# EAGLE library part POLOLU_HIGH-POWER_STEPPER_MOTOR_DRIVER_36V4 (library high power stepper driver 36V4)
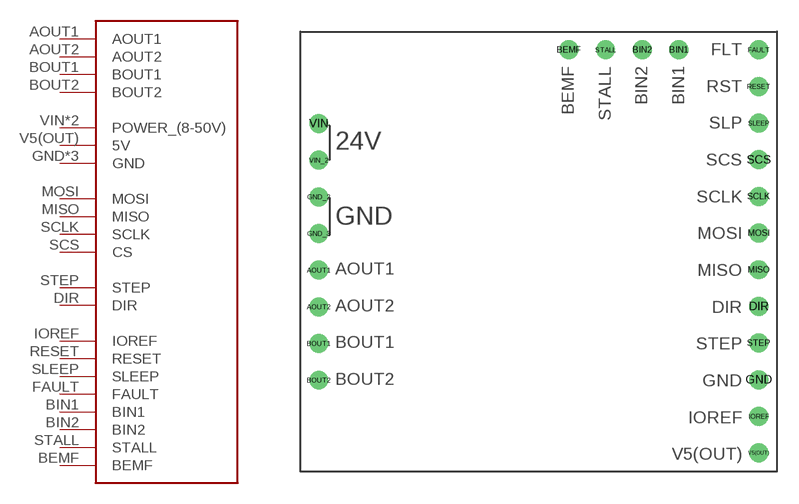
[diagram p0: symbol with the pads of BREAKOUT_BOARD; footprint BREAKOUT_BOARD]

Designator prefix -

## POLOLU_HIGH-POWER_STEPPER_MOTOR_DRIVER_36V4  [BREAKOUT_BOARD]
AOUT1  AOUT1
AOUT2  AOUT2
BEMF  BEMF
BIN1  BIN1
BIN2  BIN2
BOUT1  BOUT1
BOUT2  BOUT2
DIR  DIR
FAULT  FAULT
GND  GND
GND_2  GND
GND_3  GND
IOREF  IOREF
MISO  MISO
MOSI  MOSI
RESET  RESET
SCLK  SCLK
SCS  CS
SLEEP  SLEEP
STALL  STALL
STEP  STEP
V5(OUT)  5V
VIN  POWER_(8-50V)
VIN_2  POWER_(8-50V)

## Footprint BREAKOUT_BOARD (pad centres in mm)
drill 0.8: AOUT1 1.27,13.97; AOUT2 1.27,11.43; BEMF 18.6,29.24; BIN1 26.22,29.24; BIN2 23.68,29.24; BOUT1 1.27,8.89; BOUT2 1.27,6.35; DIR 31.75,11.46; FAULT 31.75,29.24; GND 31.75,6.38; GND_2 1.27,19.05; GND_3 1.27,16.51; IOREF 31.75,3.84; MISO 31.75,14; MOSI 31.75,16.54; RESET 31.75,26.7; SCLK 31.75,19.08; SCS 31.75,21.62; SLEEP 31.75,24.16; STALL 21.14,29.24; STEP 31.75,8.92; V5(OUT) 31.75,1.3; VIN 1.27,24.13; VIN_2 1.27,21.59